# Altium footprint library PcbLib1.PcbLib: 31 footprints (part 1 of 2)
Each footprint in its own frame and in the unit in brackets; x right, y up, seen from the top. Pads: shape width x height; smd on the part's side, far side on the other; paste and mask are expansions set on the pad; w line width, h text height; cw(c..) or ccw(c..) is an arc to the next point about the centre after c.
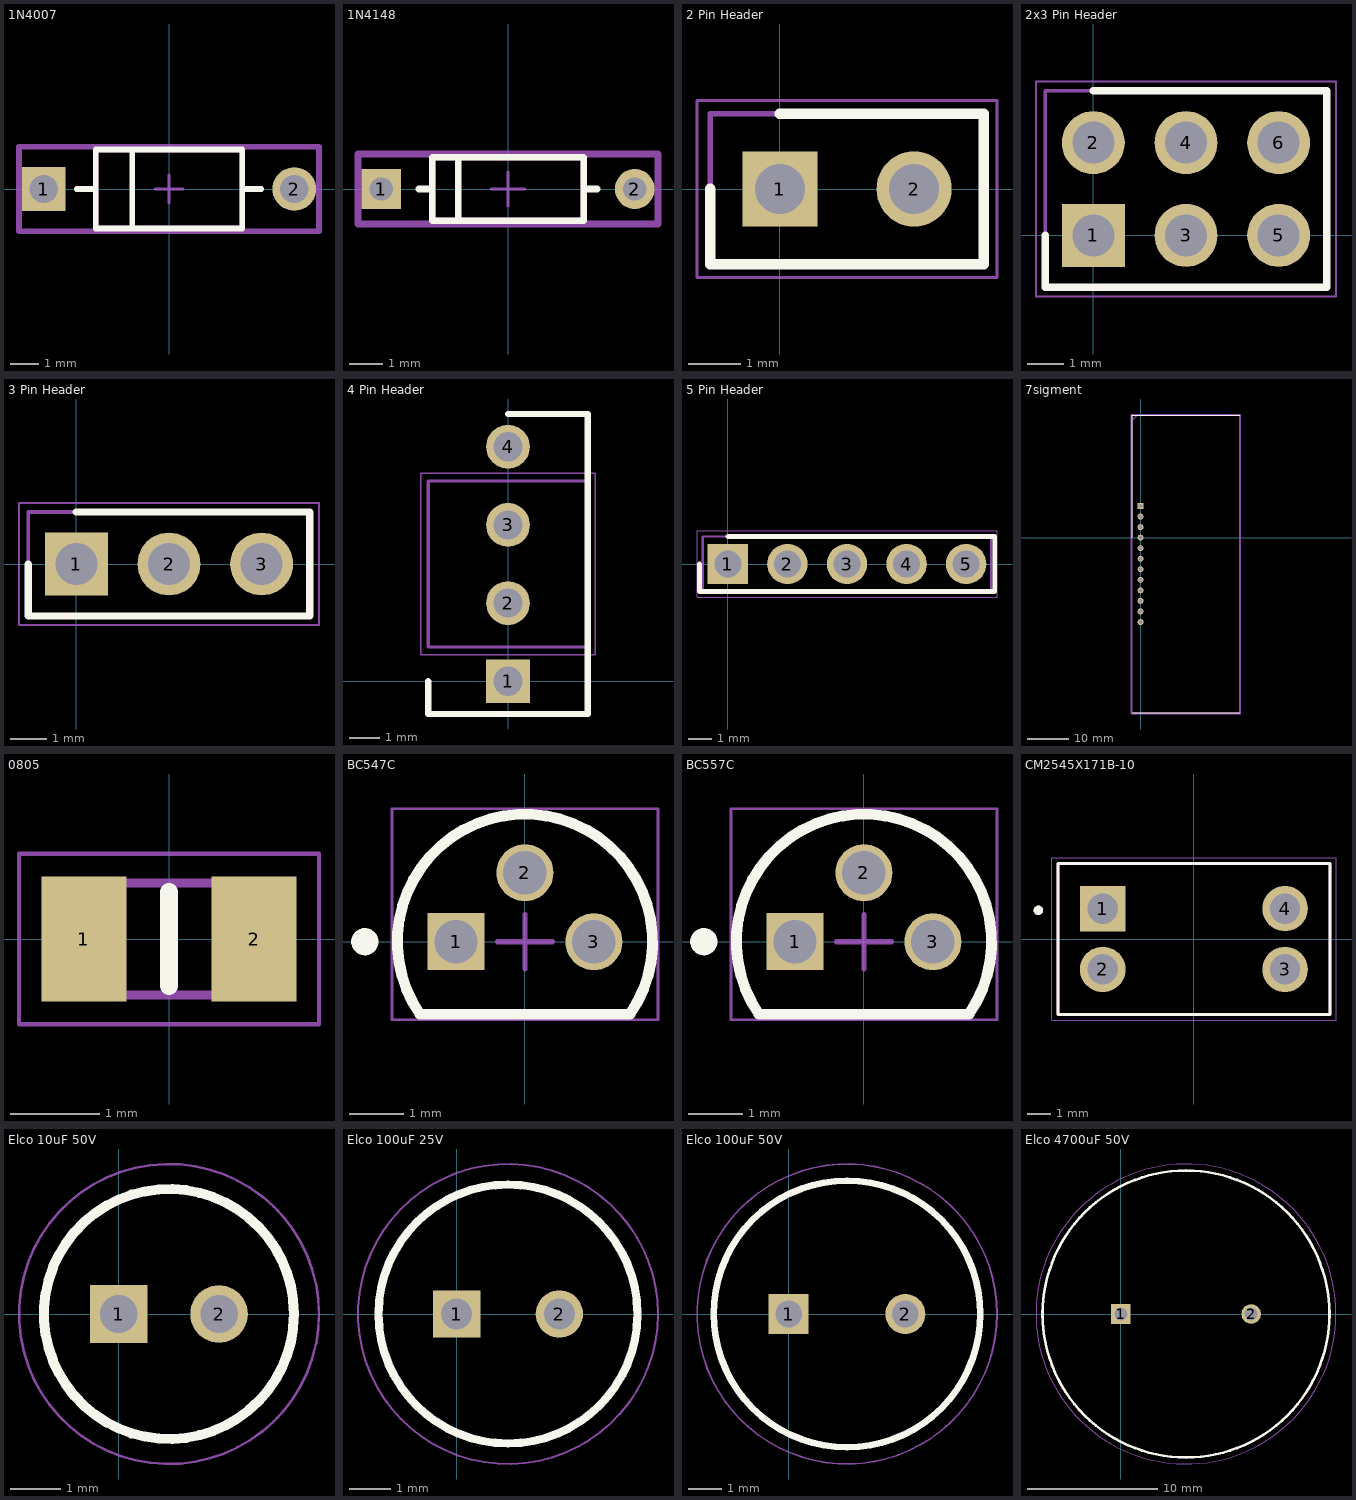
[diagram p0: the footprints below, top view; thin cyan lines are the x and y axes]

## 1N4007 [mm]
pads (2):
  rect 1.55x1.55 hole 1 paste-2539.97 mask+0: 1(-4.44,0)
  round 1.55 hole 1 paste-2539.97 mask+0: 2(4.44,0)
Top Overlay:
  lines w0.2: -3.265,0 -2.6,0 ; -1.3,-1.33 -1.3,1.33 ; 2.6,0 3.265,0 ; -2.6,-1.4 2.6,-1.4 2.6,1.4 -2.6,1.4 -2.6,-1.4
Top 3D Body:
  lines w0.2: -2.6,-1.4 2.6,-1.4 2.6,1.4 -2.6,1.4 -2.6,-1.4
Top Courtyard:
  lines w0.2: -5.315,-1.5 5.315,-1.5 5.315,1.5 -5.315,1.5 -5.315,-1.5
Top Assembly:
  lines w0.2: -5.315,-1.5 5.315,-1.5 5.315,1.5 -5.315,1.5 -5.315,-1.5
Top Component Center:
  lines w0.1: -0.5,0 0.5,0 ; 0,-0.5 0,0.5
3D body "Diode_Diotec_1N4007_eec.STEP": height 0.25, standoff 0, extent -5.315,-1.5 5.315,1.5

## 1N4148 [mm]
pads (2):
  rect 1.2x1.2 hole 0.7 paste-2539.97 mask+0: 1(-3.813,0)
  round 1.2 hole 0.7 paste-2539.97 mask+0: 2(3.813,0)
Top Overlay:
  lines w0.2: -2.68,0 -2.28,0 ; -1.5,-0.855 -1.5,0.855 ; 2.28,0 2.68,0 ; -2.28,-0.955 -2.28,0.955 2.28,0.955 2.28,-0.955 -2.28,-0.955
Top 3D Body:
  lines w0.2: -2.28,-0.955 -2.28,0.955 2.28,0.955 2.28,-0.955 -2.28,-0.955
Top Courtyard:
  lines w0.2: -4.513,-1.055 -4.513,1.055 4.513,1.055 4.513,-1.055 -4.513,-1.055
Top Assembly:
  lines w0.2: -4.513,-1.055 -4.513,1.055 4.513,1.055 4.513,-1.055 -4.513,-1.055
Top Component Center:
  lines w0.1: -0.5,0 0.5,0 ; 0,-0.5 0,0.5
3D body "Diode_ON_Semiconductor_1N914B_eec.STEP": height 0.25, standoff 0, extent -4.513,-1.055 4.513,1.055

## 2 Pin Header [mm]
pads (2):
  rect 1.425x1.425 hole 0.95: 1(0,0)
  round 1.425 hole 0.95: 2(2.54,0)
Top Overlay:
  lines w0.2: -1.32,0 -1.32,-1.425 3.86,-1.425 3.86,1.425 0,1.425
Mechanical 13:
  lines w0.1: -1.32,-1.425 3.86,-1.425 3.86,1.425 -1.32,1.425 -1.32,-1.425
Mechanical 15:
  lines w0.05: -1.57,-1.675 4.11,-1.675 4.11,1.675 -1.57,1.675 -1.57,-1.675
3D body "5-146280-2.stp": height 8.12, standoff -3.05, extent -1.067,-1.168 3.607,1.168

## 2x3 Pin Header [mm] "HDRV6W67P254_2X3_721X488X872P"
pads (6):
  rect 1.725x1.725 hole 1.15: 1(0,0)
  round 1.725 hole 1.15: 2(0,2.54) 3(2.54,0) 4(2.54,2.54) 5(5.08,0) 6(5.08,2.54)
Top Overlay:
  lines w0.2: -1.32,0 -1.32,-1.425 6.4,-1.425 6.4,3.965 0,3.965
Mechanical 13:
  lines w0.1: -1.32,-1.425 -1.32,3.965 6.4,3.965 6.4,-1.425 -1.32,-1.425
Mechanical 15:
  lines w0.05: -1.57,-1.675 -1.57,4.215 6.65,4.215 6.65,-1.675 -1.57,-1.675
3D body "5-146256-3.stp": height 8.12, standoff -3.05, extent -1.067,-1.168 6.147,3.708

## 3 Pin Header [mm]
pads (3):
  rect 1.725x1.725 hole 1.15: 1(0,0)
  round 1.725 hole 1.15: 2(2.54,0) 3(5.08,0)
Top Overlay:
  lines w0.2: -1.32,0 -1.32,-1.425 6.4,-1.425 6.4,1.425 0,1.425
Mechanical 13:
  lines w0.1: -1.32,-1.425 -1.32,1.425 6.4,1.425 6.4,-1.425 -1.32,-1.425
Mechanical 15:
  lines w0.05: -1.57,-1.675 -1.57,1.675 6.65,1.675 6.65,-1.675 -1.57,-1.675
3D body "5-146280-3.stp": height 8.12, standoff -3.05, extent -1.067,-1.168 6.147,1.168

## 4 Pin Header [mm]
pads (4):
  rect 1.425x1.425 hole 0.95: 1(0,0)
  round 1.425 hole 0.95: 2(0,2.54) 3(0,5.08) 4(0,7.62)
Top Overlay:
  lines w0.2: -2.59,0 -2.59,-1.062 2.59,-1.062 2.59,8.683 0,8.683
Mechanical 13:
  lines w0.1: -2.59,1.115 -2.59,6.505 2.59,6.505 2.59,1.115 -2.59,1.115
Mechanical 15:
  lines w0.05: -2.84,0.865 -2.84,6.755 2.84,6.755 2.84,0.865 -2.84,0.865
3D body "5-146280-4.stp": height 8.21, standoff -3.43, extent -2.335,-0.384 2.335,8.004

## 5 Pin Header [mm]
pads (5):
  rect 1.725x1.725 hole 1.15: 1(0,0)
  round 1.725 hole 1.15: 2(2.54,0) 3(5.08,0) 4(7.62,0) 5(10.16,0)
Top Overlay:
  lines w0.2: -1.212,0 -1.212,-1.17 11.373,-1.17 11.373,1.17 0,1.17
Mechanical 13:
  lines w0.1: -1.065,-1.17 -1.065,1.17 11.225,1.17 11.225,-1.17 -1.065,-1.17
Mechanical 15:
  lines w0.05: -1.315,-1.42 -1.315,1.42 11.475,1.42 11.475,-1.42 -1.315,-1.42
3D body "5-146280-5.stp": height 8.12, standoff -3.05, extent -1.067,-1.168 11.227,1.168

## 7sigment [mm]
pads (12):
  rect 1.425x1.425 hole 0.95: 1(0,7.62)
  round 1.425 hole 0.95: 2(0,5.08) 3(0,2.54) 4(0,0) 5(0,-2.54) 6(0,-5.08) 7(0,-7.62) 8(0,-10.16) 9(0,-12.7) 10(0,-15.24) 11(0,-17.78) 12(0,-20.32)
Top Overlay:
  lines w0.2: -2.025,-42.225 23.925,-42.225 ; -2.025,0 -2.025,29.525 23.925,29.525
Mechanical 13:
  lines w0.1: -2.025,28.255 -0.755,29.525 ; -2.025,-42.225 23.925,-42.225 23.925,29.525 -2.025,29.525 -2.025,-42.225
Mechanical 15:
  lines w0.05: -2.275,-42.475 24.175,-42.475 24.175,29.775 -2.275,29.775 -2.275,-42.475

## 0805 [mm]
pads (2):
  rect 0.95x1.4 smd: 1(-0.95,0) 2(0.95,0)
Top Overlay:
  lines w0.2: 0,-0.525 0,0.525
Mechanical 13:
  lines w0.1: -1,-0.625 1,-0.625 1,0.625 -1,0.625 -1,-0.625
Mechanical 15:
  lines w0.05: -1.675,-0.95 1.675,-0.95 1.675,0.95 -1.675,0.95 -1.675,-0.95
3D body "AC0805FR-7W2KL.stp": height 0.6, standoff 0, extent -1,-0.625 1,0.625

## BC547C [mm] "TO, 3-Leads, Body Dia 4.7mm, Pitch 1.27mm"
height 7.87
pads (3):
  rect 1.05x1.05 hole 0.8: 1(-1.27,0)
  round 1.05 hole 0.8: 2(0,1.27) 3(1.27,0)
Top Overlay:
  circle w0.25: c-2.95,0 r0.125
  lines w0.2: -1.934,-1.335 cw(c0,0) 1.934,-1.335 -1.934,-1.335
Mechanical 13:
  lines w0.1: -1.934,-1.335 cw(c0,0) 1.934,-1.335 -1.934,-1.335
Mechanical 15:
  lines w0.05: -2.45,-1.435 2.45,-1.435 2.45,2.45 -2.45,2.45 -2.45,-1.435
  lines w0.1: -0.5,0 0.5,0 ; 0,-0.5 0,0.5
3D body: height 7.87, standoff 2.54, extent -2.349,-1.334 2.357,2.359

## BC557C [mm] "TO, 3-Leads, Body Dia 4.7mm, Pitch 1.27mm"
height 7.87
pads (3):
  rect 1.05x1.05 hole 0.8: 1(-1.27,0)
  round 1.05 hole 0.8: 2(0,1.27) 3(1.27,0)
Top Overlay:
  circle w0.25: c-2.95,0 r0.125
  lines w0.2: -1.934,-1.335 cw(c0,0) 1.934,-1.335 -1.934,-1.335
Mechanical 13:
  lines w0.1: -1.934,-1.335 cw(c0,0) 1.934,-1.335 -1.934,-1.335
Mechanical 15:
  lines w0.05: -2.45,-1.435 -2.45,2.45 2.45,2.45 2.45,-1.435 -2.45,-1.435
  lines w0.1: -0.5,0 0.5,0 ; 0,-0.5 0,0.5
3D body: height 7.87, standoff 2.54, extent -2.349,-1.334 2.357,2.359

## CM2545X171B-10 [mm]
pads (4):
  rect 1.905x1.905 hole 1.27: 1(-3.81,1.27)
  round 1.905 hole 1.27: 2(-3.81,-1.27) 3(3.81,-1.27) 4(3.81,1.27)
Top Overlay:
  circle w0.2: c-6.5,1.2 r0.1
  lines w0.127: -5.69,-3.15 5.69,-3.15 5.69,3.15 -5.69,3.15 -5.69,-3.15
Mechanical 13:
  circle w0.2: c-6.5,1.2 r0.1
  lines w0.127: -5.69,-3.15 5.69,-3.15 5.69,3.15 -5.69,3.15 -5.69,-3.15
Mechanical 15:
  lines w0.05: -5.94,-3.4 -5.94,3.4 5.94,3.4 5.94,-3.4 -5.94,-3.4
3D body "step_temp.STEP": height 9.5, standoff -3.68, extent -5.69,-3.15 5.69,3.15

## Elco 10uF 50V [mm] "CAPPRD200W55D500H1250"
pads (2):
  rect 1.15x1.15 hole 0.75: 1(0,0)
  round 1.15 hole 0.75: 2(2,0)
Top Overlay:
  circle w0.2: c1,0 r2.5
Mechanical 13:
  circle w0.1: c1,0 r2.5
Mechanical 15:
  circle w0.05: c1,0 r3
3D body "EEU-FR1H100.stp": height 12.5, standoff -10, extent -1.75,-2.75 3.75,2.75

## Elco 100uF 25V [mm]
pads (2):
  rect 1.15x1.15 hole 0.75: 1(0,0)
  round 1.15 hole 0.75: 2(2.5,0)
Top Overlay:
  circle w0.2: c1.25,0 r3.15
Mechanical 13:
  circle w0.1: c1.25,0 r3.15
Mechanical 15:
  circle w0.05: c1.25,0 r3.65
3D body "EEU-HD1E101H.stp": height 12.7, standoff -10, extent -2.15,-3.4 4.65,3.4

## Elco 100uF 50V [mm]
pads (2):
  rect 1.2x1.2 hole 0.8: 1(0,0)
  round 1.2 hole 0.8: 2(3.5,0)
Top Overlay:
  circle w0.2: c1.75,0 r4
Mechanical 13:
  circle w0.1: c1.75,0 r4
Mechanical 15:
  circle w0.05: c1.75,0 r4.5
3D body "ESH107M050AG3KA.stp": height 12.5, standoff -10, extent -2.5,-4.25 6,4.25

## Elco 4700uF 50V [mm]
pads (2):
  rect 1.5x1.5 hole 1: 1(0,0)
  round 1.5 hole 1: 2(10,0)
Top Overlay:
  circle w0.2: c5,0 r11
Mechanical 13:
  circle w0.1: c5,0 r11
Mechanical 15:
  circle w0.05: c5,0 r11.5
3D body "ESK478M050AQ3AA.stp": height 37, standoff -10, extent -6.25,-11.25 16.25,11.25